# Altium footprint library tyco-term-block.PcbLib: 17 footprints (part 1 of 2)
Each footprint in its own frame and in the unit in brackets; x right, y up, seen from the top. Pads: shape width x height; smd on the part's side, far side on the other; paste and mask are expansions set on the pad; w line width, h text height; cw(c..) or ccw(c..) is an arc to the next point about the centre after c.
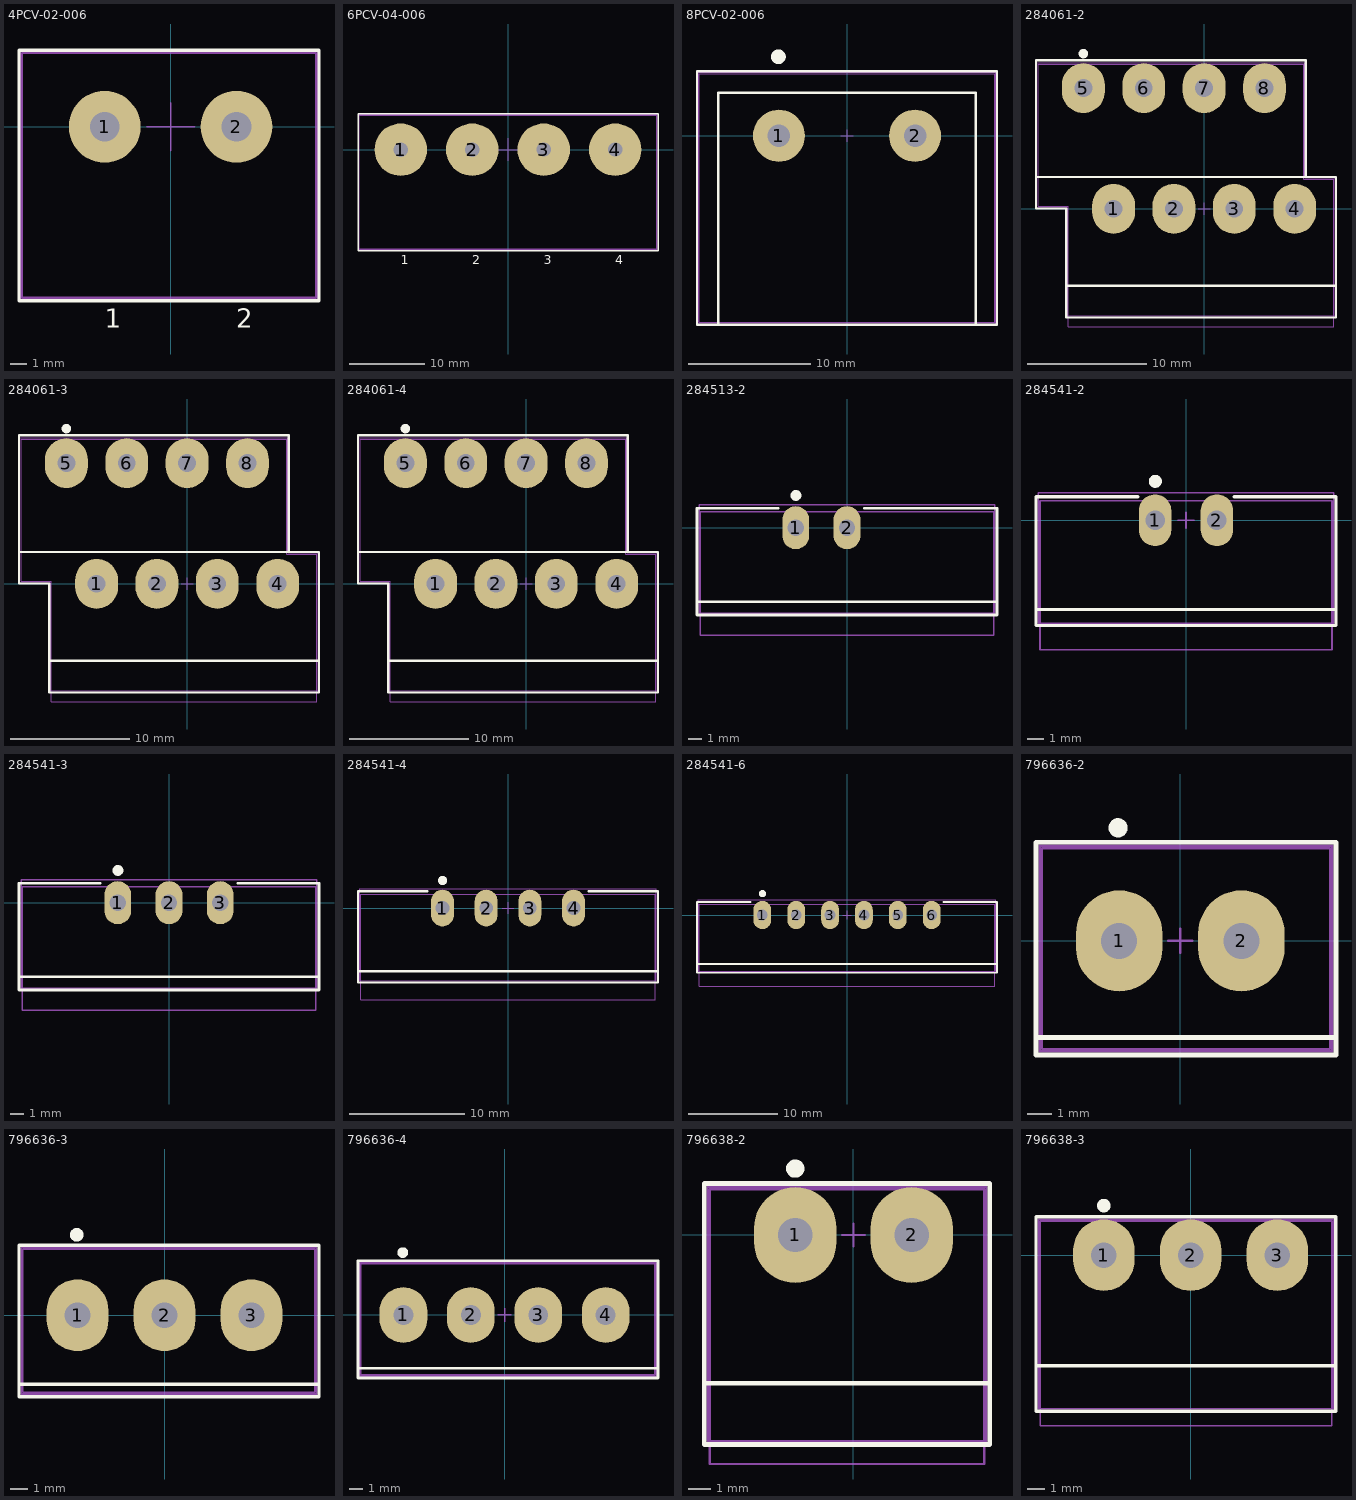
[diagram p0: the footprints below, top view; thin cyan lines are the x and y axes]

## 4PCV-02-006 [mm] "Barrier Terminal Block; 8.25mm Pitch; 2 Positions"
height 12.7
pads (2):
  round 4.5 hole 1.85: 1(-4.13,0) 2(4.13,0)
Top Overlay:
  lines w0.2: -9.5,-10.9 9.3,-10.9 9.3,4.8 -9.5,4.8 -9.5,-10.9
  text "1" at -4.13,-12.6 h1.2
  text "2" at 4.13,-12.6 h1.2
Mechanical 13:
  lines w0.1: -1.5,0 1.5,0 ; 0,-1.5 0,1.5 ; -9.3,-10.7 -9.3,4.6 9.1,4.6 9.1,-10.7 -9.3,-10.7
Mechanical 15:
  lines w0.1: -9.4,-10.8 9.2,-10.8 9.2,4.7 -9.4,4.7 -9.4,-10.8
  text ".Designator" at -4,-6 h1.2
3D body "c-5-1437648-7-t-3d.stp": height 13.48, standoff -3.92, extent -9.23,-10.7 9.03,4.54

## 6PCV-04-006 [mm] "Barrier Terminal Block; 9.53mm Pitch; 4 Positions"
height 15.9
pads (4):
  round 7 hole 1.9: 1(-14.295,0) 2(-4.765,0) 3(4.765,0) 4(14.295,0)
Top Overlay:
  lines w0.2: -20,-13.5 -20,4.8 20,4.8 20,-13.5 -20,-13.5
  text "3" at 4.765,-15.3 h1.2
  text "4" at 14.295,-15.3 h1.2
  text "2" at -4.765,-15.3 h1.2
  text "1" at -14.295,-15.3 h1.2
Mechanical 13:
  lines w0.1: -1.5,0 1.5,0 ; 0,-1.5 0,1.5 ; -19.8,-13.2 19.8,-13.2 19.8,4.6 -19.8,4.6 -19.8,-13.2
Mechanical 15:
  lines w0.1: -19.9,-13.3 -19.9,4.7 19.9,4.7 19.9,-13.3 -19.9,-13.3
  text ".Designator" at -4,-6 h1.2
3D body "c-6-1437652-7-p-3d.stp": height 15.89, standoff -5.06, extent -19.825,-13.2 19.825,4.58

## 8PCV-02-006 [mm] "2 Pos, Barrier Block, Header Assembly, 11.12mm Pitch"
height 8.35
pads (2):
  round 4.25 hole 1.85: 1(-5.56,0) 2(5.56,0)
Top Overlay:
  circle w0.6: c-5.6,6.45 r0.3
  lines w0.2: -10.5,-15.45 -10.5,3.5 10.5,3.5 10.5,-15.45 ; -12.25,-15.45 -12.25,5.275 12.25,5.275 12.25,-15.45 -12.25,-15.45
Mechanical 13:
  lines w0.1: -0.5,0 0.5,0 ; 0,-0.5 0,0.5 ; -12.05,-15.25 -12.05,5.08 12.05,5.08 12.05,-15.25 -12.05,-15.25
Mechanical 15:
  lines w0.1: -12.15,-15.35 -12.15,5.175 12.15,5.175 12.15,-15.35 -12.15,-15.35
  text ".Designator" at -1.37,-3.6 h0.8
3D body "c-5-1437657-7-r-3d.stp": height 19.56, standoff -4.7, extent -12.04,-15.245 12.04,5.075

## 284061-2 [mm] "2 Pos, 2 Rows, Terminal Block, Header Assembly, 90dg, 5.08mm Pitch"
height 22.9
pads (8):
  oval 3.6x4.2 hole 1.5: 1(-7.62,0) 2(-2.54,0) 3(2.54,0) 4(7.62,0) 5(-10.16,10.16) 6(-5.08,10.16) 7(0,10.16) 8(5.08,10.16)
Top Overlay:
  circle w0.4: c-10.165,13.06 r0.2
  lines w0.2: -14.125,2.675 8.55,2.675 ; -11.6,-6.475 11.05,-6.475 ; 8.55,2.675 11.1,2.675 11.1,-9.15 -11.6,-9.15 -11.6,0.025 -14.15,0.025 -14.15,12.5 8.55,12.5 8.55,2.675
Mechanical 13:
  lines w0.1: -0.5,0 0.5,0 ; 0,-0.5 0,0.5 ; -13.975,0.2 -13.975,12.175 8.375,12.175 8.375,2.5 10.925,2.5 10.925,-9.925 -11.425,-9.925 -11.425,0.2 -13.975,0.2
Mechanical 15:
  lines w0.1: -14.075,0.1 -11.525,0.1 -11.525,-9 11.025,-9 11.025,2.6 8.475,2.6 8.475,12.3 -14.075,12.3 -14.075,0.1
  text ".Designator" at -4.13,-3.45 h0.8
3D body "c-284061-4-b-3d.stp": height 23.45, standoff -3.45, extent -13.975,-9.925 10.925,12.175

## 284061-3 [mm] "3 Pos, 2 Rows, Terminal Block, Header Assembly, 90dg, 5.08mm Pitch"
height 22.9
pads (8):
  oval 3.6x4.2 hole 1.5: 1(-7.62,0) 2(-2.54,0) 3(2.54,0) 4(7.62,0) 5(-10.16,10.16) 6(-5.08,10.16) 7(0,10.16) 8(5.08,10.16)
Top Overlay:
  circle w0.4: c-10.165,13.06 r0.2
  lines w0.2: -14.125,2.675 8.55,2.675 ; -11.6,-6.475 11.05,-6.475 ; 8.55,2.675 11.1,2.675 11.1,-9.15 -11.6,-9.15 -11.6,0.025 -14.15,0.025 -14.15,12.5 8.55,12.5 8.55,2.675
Mechanical 13:
  lines w0.1: -0.5,0 0.5,0 ; 0,-0.5 0,0.5 ; -13.975,0.2 -13.975,12.175 8.375,12.175 8.375,2.5 10.925,2.5 10.925,-9.925 -11.425,-9.925 -11.425,0.2 -13.975,0.2
Mechanical 15:
  lines w0.1: -14.075,0.1 -11.525,0.1 -11.525,-9 11.025,-9 11.025,2.6 8.475,2.6 8.475,12.3 -14.075,12.3 -14.075,0.1
  text ".Designator" at -4.13,-3.45 h0.8
3D body "c-284061-4-b-3d.stp": height 23.45, standoff -3.45, extent -13.975,-9.925 10.925,12.175

## 284061-4 [mm] "4 Pos, 2 Rows, Terminal Block, Header Assembly, 90dg, 5.08mm Pitch"
height 22.9
pads (8):
  oval 3.6x4.2 hole 1.5: 1(-7.62,0) 2(-2.54,0) 3(2.54,0) 4(7.62,0) 5(-10.16,10.16) 6(-5.08,10.16) 7(0,10.16) 8(5.08,10.16)
Top Overlay:
  circle w0.4: c-10.165,13.06 r0.2
  lines w0.2: -14.125,2.675 8.55,2.675 ; -11.6,-6.475 11.05,-6.475 ; 8.55,2.675 8.55,12.5 -14.15,12.5 -14.15,0.025 -11.6,0.025 -11.6,-9.15 11.1,-9.15 11.1,2.675 8.55,2.675
Mechanical 13:
  lines w0.1: -0.5,0 0.5,0 ; 0,-0.5 0,0.5 ; -13.975,0.2 -11.425,0.2 -11.425,-9.925 10.925,-9.925 10.925,2.5 8.375,2.5 8.375,12.175 -13.975,12.175 -13.975,0.2
Mechanical 15:
  lines w0.1: -14.075,0.1 -14.075,12.3 8.475,12.3 8.475,2.6 11.025,2.6 11.025,-9 -11.525,-9 -11.525,0.1 -14.075,0.1
  text ".Designator" at -4.13,-3.45 h0.8
3D body "c-284061-4-b-3d.stp": height 23.45, standoff -3.45, extent -13.975,-9.925 10.925,12.175

## 284513-2 [mm] "2 Pos, Terminal Block, Header Assembly, 90dg, 3.81mm Pitch"
height 7.25
pads (2):
  oval 2x3.2 hole 1.2: 1(-3.81,0) 2(0,0)
Top Overlay:
  circle w0.4: c-3.8,2.4 r0.2
  lines w0.2: -11.16,-5.5 11.16,-5.5 ; -5.125,1.45 -11.16,1.45 -11.16,-6.5 11.16,-6.5 11.16,1.45 1.275,1.45
Mechanical 13:
  lines w0.1: -0.5,0 0.5,0 ; 0,-0.5 0,0.5 ; -10.91,-8 -10.91,-8 10.91,-8 10.91,1.2 -10.91,1.2 -10.91,-8
Mechanical 15:
  lines w0.1: -11.01,-6.35 11.01,-6.35 11.01,1.7 -11.01,1.7 -11.01,-6.35
  text ".Designator" at -2.225,-3.45 h0.5
3D body "c-284513-2-c-3d.stp": height 7.82, standoff -2.88, extent -4.955,-8 4.955,1.2

## 284541-2 [mm] "2 Pos, Terminal Block, Header Assembly, 90dg, 3.81mm Pitch, Threaded Flange"
height 7.25
pads (2):
  oval 2x3.2 hole 1.2: 1(-1.905,0) 2(1.905,0)
Top Overlay:
  circle w0.4: c-1.895,2.4 r0.2
  lines w0.2: -9.255,-5.5 9.25,-5.5 ; -2.975,1.45 -9.255,1.45 -9.255,-6.5 9.25,-6.5 9.25,1.45 2.975,1.45
Mechanical 13:
  lines w0.1: -0.5,0 0.5,0 ; 0,-0.5 0,0.5 ; -9.005,-8 -9.005,-8 9,-8 9,1.2 -9.005,1.2 -9.005,-8
Mechanical 15:
  lines w0.1: -9.105,-6.35 9.1,-6.35 9.1,1.7 -9.105,1.7 -9.105,-6.35
  text ".Designator" at -0.32,-3.45 h0.5
3D body "c-284541-2-c-3d.stp": height 7.27, standoff -3.38, extent -9.005,-8 9.005,1.2

## 284541-3 [mm] "3 Pos, Terminal Block, Header Assembly, 90dg, 3.81mm Pitch, Threaded Flange"
height 7.25
pads (3):
  oval 2x3.2 hole 1.2: 1(-3.81,0) 2(0,0) 3(3.81,0)
Top Overlay:
  circle w0.4: c-3.8,2.4 r0.2
  lines w0.2: -11.16,-5.5 11.16,-5.5 ; -5.125,1.45 -11.16,1.45 -11.16,-6.5 11.16,-6.5 11.16,1.45 5.125,1.45
Mechanical 13:
  lines w0.1: -0.5,0 0.5,0 ; 0,-0.5 0,0.5 ; -10.91,-8 -10.91,1.2 10.91,1.2 10.91,-8 -10.91,-8 -10.91,-8
Mechanical 15:
  lines w0.1: -11.01,-6.35 -11.01,1.7 11.01,1.7 11.01,-6.35 -11.01,-6.35
  text ".Designator" at -2.225,-3.45 h0.5
3D body "c-284541-3-c-3d.stp": height 7.27, standoff -3.38, extent -10.91,-8 10.91,1.2

## 284541-4 [mm] "4 Pos, Terminal Block, Header Assembly, 90dg, 3.81mm Pitch, Threaded Flange"
height 7.25
pads (4):
  oval 2x3.2 hole 1.2: 1(-5.715,0) 2(-1.905,0) 3(1.905,0) 4(5.715,0)
Top Overlay:
  circle w0.4: c-5.705,2.4 r0.2
  lines w0.2: -13.065,-5.5 13.07,-5.5 ; -7.03,1.45 -13.075,1.45 -13.075,-6.5 13.075,-6.5 13.075,1.45 7.03,1.45
Mechanical 13:
  lines w0.1: -0.5,0 0.5,0 ; 0,-0.5 0,0.5 ; -12.825,-8 12.825,-8 12.825,1.2 -12.825,1.2 -12.825,-8
Mechanical 15:
  lines w0.1: -12.925,-6.35 12.925,-6.35 12.925,1.7 -12.925,1.7 -12.925,-6.35
  text ".Designator" at -4.13,-3.45 h0.5
3D body "c-284541-4-c-3d.stp": height 7.27, standoff -3.38, extent -12.815,-8 12.815,1.2

## 284541-6 [mm] "6 Pos, Terminal Block, Header Assembly, 90dg, 3.81mm Pitch, Threaded Flange"
height 7.25
pads (6):
  oval 2x3.2 hole 1.2: 1(-9.525,0) 2(-5.715,0) 3(-1.905,0) 4(1.905,0) 5(5.715,0) 6(9.525,0)
Top Overlay:
  circle w0.4: c-9.515,2.4 r0.2
  lines w0.2: -16.875,-5.5 16.865,-5.5 ; -10.84,1.45 -16.875,1.45 -16.875,-6.5 16.875,-6.5 16.875,1.45 10.84,1.45
Mechanical 13:
  lines w0.1: -0.5,0 0.5,0 ; 0,-0.5 0,0.5 ; -16.625,-8 -16.625,1.2 16.625,1.2 16.625,-8 -16.625,-8
Mechanical 15:
  lines w0.1: -16.725,-6.35 -16.725,1.7 16.725,1.7 16.725,-6.35 -16.725,-6.35
  text ".Designator" at -4.13,-3.45 h0.5
3D body "c-284541-6-c-3d.stp": height 7.27, standoff -3.38, extent -16.625,-8 16.625,1.2

## 796636-2 [mm] "2 Pos, Terminal Block, Header Assembly, RA, 5.08mm Pitch"
height 12
pads (2):
  oval 3.6x4.2 hole 1.5: 1(-2.54,0) 2(2.54,0)
Top Overlay:
  circle w0.4: c-2.585,4.7 r0.2
  lines w0.2: -6,-4.025 6.475,-4.025 ; -6,-4.75 6.475,-4.75 6.475,4.1 -6,4.1 -6,-4.75
Mechanical 13:
  lines w0.1: -0.5,0 0.5,0 ; 0,-0.5 0,0.5 ; -5.75,-4.5 6.225,-4.5 6.225,3.85 -5.75,3.85 -5.75,-4.5
Mechanical 15:
  lines w0.1: -5.85,-4.6 6.325,-4.6 6.325,3.95 -5.85,3.95 -5.85,-4.6
  text ".Designator" at -1.59,-3.45 h0.5
3D body "c-796636-2-b-3d.stp": height 12.02, standoff -3.48, extent -5.75,-4.5 6.23,3.85

## 796636-3 [mm] "3 Pos, Terminal Block, Header Assembly, RA, 5.08mm Pitch"
height 12
pads (3):
  oval 3.6x4.2 hole 1.5: 1(-5.08,0) 2(0,0) 3(5.08,0)
Top Overlay:
  circle w0.4: c-5.125,4.7 r0.2
  lines w0.2: -8.5,-4.025 8.975,-4.025 ; -8.5,-4.75 -8.5,4.1 9.025,4.1 9.025,-4.75 -8.5,-4.75
Mechanical 13:
  lines w0.1: -0.5,0 0.5,0 ; 0,-0.5 0,0.5 ; -8.275,-4.5 -8.275,3.85 8.775,3.85 8.775,-4.5 -8.275,-4.5
Mechanical 15:
  lines w0.1: -8.375,-4.6 -8.375,3.95 8.875,3.95 8.875,-4.6 -8.375,-4.6
  text ".Designator" at -1.59,-3.45 h0.5
3D body "c-796636-3-b-3d.stp": height 12.02, standoff -3.48, extent -8.28,-4.5 8.78,3.85

## 796636-4 [mm] "4 Pos, Terminal Block, Header Assembly, RA, 5.08mm Pitch"
height 12
pads (4):
  oval 3.6x4.2 hole 1.5: 1(-7.62,0) 2(-2.54,0) 3(2.54,0) 4(7.62,0)
Top Overlay:
  circle w0.4: c-7.665,4.7 r0.2
  lines w0.2: -11.04,-4.025 11.56,-4.025 ; -11.04,-4.75 -11.04,4.1 11.565,4.1 11.565,-4.75 -11.04,-4.75
Mechanical 13:
  lines w0.1: -0.5,0 0.5,0 ; 0,-0.5 0,0.5 ; -10.815,-4.5 -10.815,3.85 11.315,3.85 11.315,-4.5 -10.815,-4.5
Mechanical 15:
  lines w0.1: -10.915,-4.6 -10.915,3.95 11.415,3.95 11.415,-4.6 -10.915,-4.6
  text ".Designator" at -4.13,-3.45 h0.5
3D body "c-796636-4-b-3d.stp": height 12.02, standoff -3.48, extent -10.81,-4.45 11.33,3.9

## 796638-2 [mm] "2 Pos, Terminal Block, Header Assembly, 90dg, 5.08mm Pitch"
height 8.35
pads (2):
  oval 3.6x4.2 hole 1.5: 1(-2.54,0) 2(2.54,0)
Top Overlay:
  circle w0.4: c-2.545,2.9 r0.2
  lines w0.2: -6.52,-6.475 5.955,-6.475 ; -6.52,-9.15 -6.52,2.25 5.955,2.25 5.955,-9.15 -6.52,-9.15
Mechanical 13:
  lines w0.1: -0.5,0 0.5,0 ; 0,-0.5 0,0.5 ; -6.27,-10 -6.27,2 5.705,2 5.705,-10 -6.27,-10
Mechanical 15:
  lines w0.1: -6.37,-9 -6.37,2.1 5.805,2.1 5.805,-9 -6.37,-9
  text ".Designator" at -1.37,-3.6 h0.5
3D body "c-796638-2-c3-3d.stp": height 8.37, standoff -3.48, extent -6.27,-10 5.71,2

## 796638-3 [mm] "3 Pos, Terminal Block, Header Assembly, 90dg, 5.08mm Pitch"
height 8.35
pads (3):
  oval 3.6x4.2 hole 1.5: 1(-5.08,0) 2(0,0) 3(5.08,0)
Top Overlay:
  circle w0.4: c-5.085,2.9 r0.2
  lines w0.2: -9.06,-6.475 8.515,-6.475 ; 8.51,-9.15 8.51,2.25 -9.06,2.25 -9.06,-9.15 8.515,-9.15
Mechanical 13:
  lines w0.1: -0.5,0 0.5,0 ; 0,-0.5 0,0.5 ; 8.24,-10 -8.81,-10 -8.81,2 8.24,2 ; 8.26,-10 8.26,2
Mechanical 15:
  lines w0.1: 8.36,-9 8.36,2.1 ; 8.365,-9 -8.91,-9 -8.91,2.1 8.365,2.1
  text ".Designator" at -1.59,-3.45 h0.5
3D body "c-796638-3-c3-3d.stp": height 8.37, standoff -3.48, extent -8.805,-10 8.255,2